# Altium schematic symbol library STM8L101FxP.Schlib: 1 symbol
Pins are listed as number, name and electrical type; pins without a type are passive.

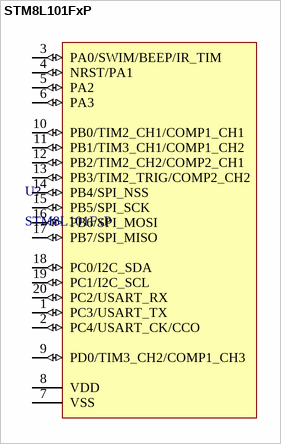
[diagram p0: symbol STM8L101FxP]

## STM8L101FxP
designator U?
MCU
pins: 1 PC3/USART_TX (io), 2 PC4/USART_CK/CCO (io), 3 PA0/SWIM/BEEP/IR_TIM (io), 4 NRST/PA1 (io), 5 PA2 (io), 6 PA3 (io), 7 VSS (power), 8 VDD (power), 9 PD0/TIM3_CH2/COMP1_CH3 (io), 10 PB0/TIM2_CH1/COMP1_CH1 (io), 11 PB1/TIM3_CH1/COMP1_CH2 (io), 12 PB2/TIM2_CH2/COMP2_CH1 (io), 13 PB3/TIM2_TRIG/COMP2_CH2 (io), 14 PB4/SPI_NSS (io), 15 PB5/SPI_SCK (io), 16 PB6/SPI_MOSI (io), 17 PB7/SPI_MISO (io), 18 PC0/I2C_SDA (io), 19 PC1/I2C_SCL (io), 20 PC2/USART_RX (io)